# Altium footprint library PJST2.54MM.PcbLib: 3 footprints
Each footprint in its own frame and in the unit in brackets; x right, y up, seen from the top. Pads: shape width x height; smd on the part's side, far side on the other; paste and mask are expansions set on the pad; w line width, h text height; cw(c..) or ccw(c..) is an arc to the next point about the centre after c.
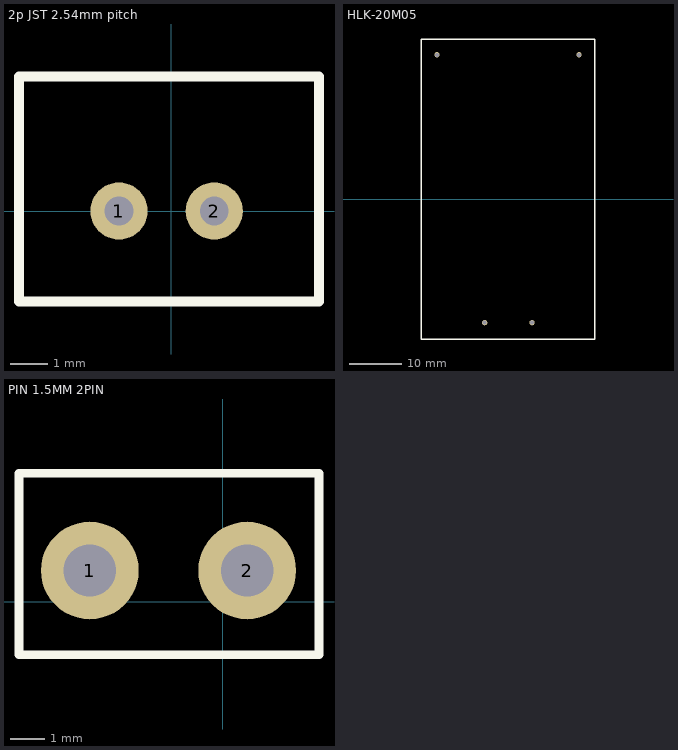
[diagram p0: the footprints below, top view; thin cyan lines are the x and y axes]

## 2p JST 2.54mm pitch [mil]
pads (2):
  round 60 hole 30: 1(-55,0) 2(45,0)
Top Overlay:
  lines w10: -159.96,-95 155,-95 155,141.22 -159.96,141.22 -159.96,-95

## HLK-20M05 [mm]
pads (4):
  round 1 hole 0.762: 1(28.2,-23.47) 2(37.2,-23.47) 3(19.129,27.432) 4(46.129,27.432)
Top Overlay:
  lines w0.254: 16.129,-26.568 49.129,-26.568 49.129,30.432 16.129,30.432 16.129,-26.568

## PIN 1.5MM 2PIN [mm]
pads (2):
  round 2.8 hole 1.5: 1(-3.81,0.889) 2(0.698,0.889)
Top Overlay:
  lines w0.254: -5.842,-1.524 2.758,-1.524 2.758,3.676 -5.842,3.676 -5.842,-1.524